# EAGLE library part PWM-SERVO-DRIVER-16CH (library zeled)
16-Channel 12-bit PWM/Servo Driver based on PCA9685 chip PCA9685 datasheet is available here: http://www.nxp.com/documents/data_sheet/PCA9685.pdf Arduino Library for PCA9685 is available here: https://github.com/kasperskaarhoj/PCA9685-Arduino-Library Click here to find device on ebay.com <http://www.ebay.com/sch/pwm+servo+module+pca9685>
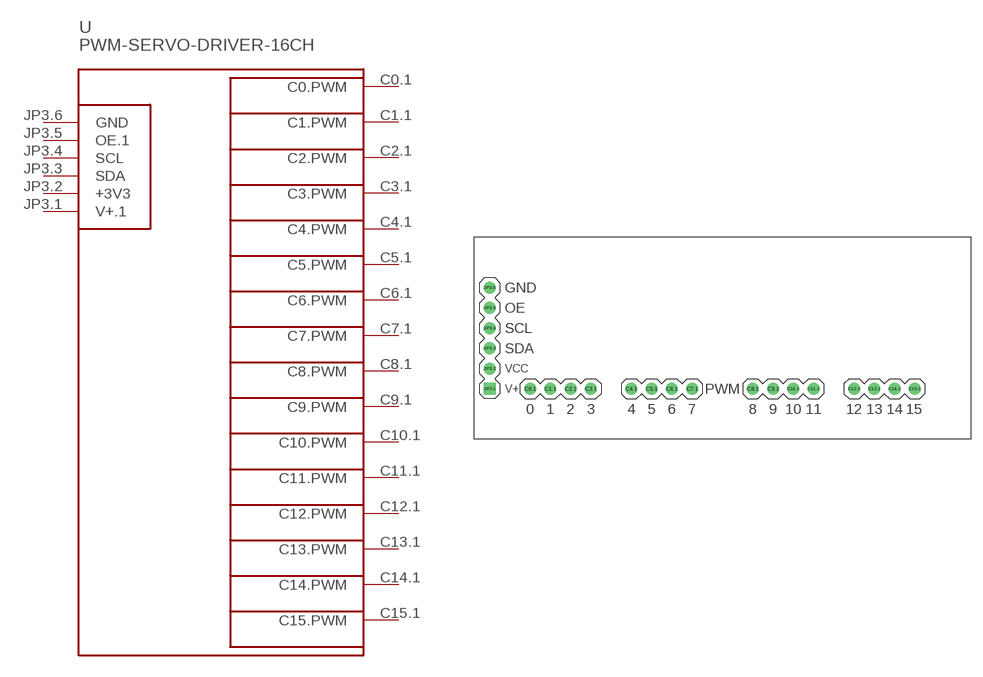
[diagram p0: symbol with the pads of PWM-SERVO-DRIVER-16CH; footprint PWM-SERVO-DRIVER-16CH]

Designator prefix -

## PWM-SERVO-DRIVER-16CH  [PWM-SERVO-DRIVER-16CH]
C0.1  C0.PWM
C1.1  C1.PWM
C2.1  C2.PWM
C3.1  C3.PWM
C4.1  C4.PWM
C5.1  C5.PWM
C6.1  C6.PWM
C7.1  C7.PWM
C8.1  C8.PWM
C9.1  C9.PWM
C10.1  C10.PWM
C11.1  C11.PWM
C12.1  C12.PWM
C13.1  C13.PWM
C14.1  C14.PWM
C15.1  C15.PWM
JP3.1  V+.1
JP3.2  +3V3  pwr
JP3.3  SDA
JP3.4  SCL
JP3.5  OE.1
JP3.6  GND  pwr

## Footprint PWM-SERVO-DRIVER-16CH (pad centres in mm)
16-Channel 12-bit PWM/Servo Driver based on PCA9685 chip
drill 1: C0.1 -24.13,-6.35; C1.1 -21.59,-6.35; C2.1 -19.05,-6.35; C3.1 -16.51,-6.35; C4.1 -11.43,-6.35; C5.1 -8.89,-6.35; C6.1 -6.35,-6.35; C7.1 -3.81,-6.35; C8.1 3.81,-6.35; C9.1 6.35,-6.35; C10.1 8.89,-6.35; C11.1 11.43,-6.35; C12.1 16.51,-6.35; C13.1 19.05,-6.35; C14.1 21.59,-6.35; C15.1 24.13,-6.35; JP3.2 -29.21,-3.81; JP3.3 -29.21,-1.27; JP3.4 -29.21,1.27; JP3.5 -29.21,3.81; JP3.6 -29.21,6.35
drill 1 square: JP3.1 -29.21,-6.35